# Altium footprint library PcbLib3.PcbLib: 1 footprints
Each footprint in its own frame and in the unit in brackets; x right, y up, seen from the top. Pads: shape width x height; smd on the part's side, far side on the other; paste and mask are expansions set on the pad; w line width, h text height; cw(c..) or ccw(c..) is an arc to the next point about the centre after c.
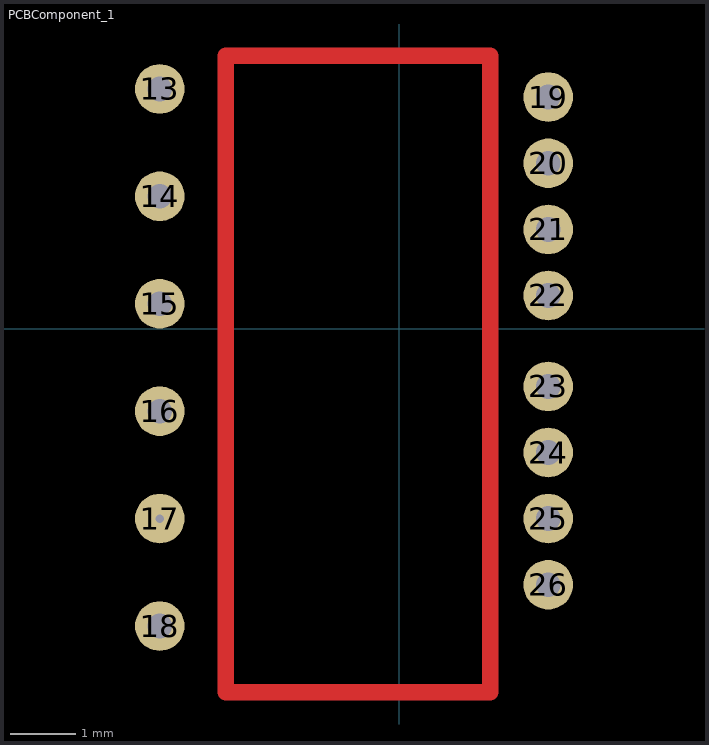
[diagram p0: the footprint, top view; thin cyan lines are the x and y axes]

## PCBComponent_1 [mil]
pads (14):
  round 30 hole 15: 13(-145,145) 14(-145,80) 15(-145,15) 16(-145,-50) 18(-145,-180) 19(90,140) 20(90,100) 21(90,60) 22(90,20) 23(90,-35) 24(90,-75) 25(90,-115) 26(90,-155)
  round 30 hole 5: 17(-145,-115)
Top Layer:
  lines w10: -105,10 -105,-220 ; -105,-220 55,-220 55,165 -105,165 -105,-220